# EAGLE library part 10067847-001RLF (library CONNECTORs)
12 (9 + 3) Position Card Connector Secure Digital - SD Surface Mount Gold
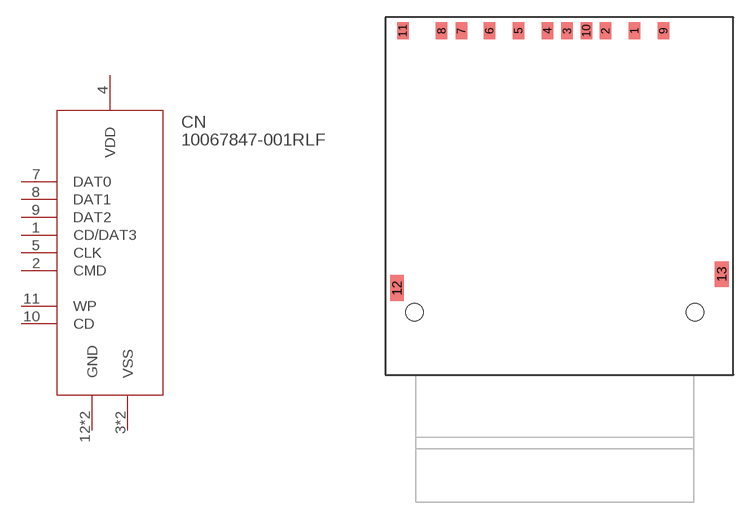
[diagram p75: symbol with the pads of 10067847-001RLF_AMP; footprint 10067847-001RLF_AMP]

Designator prefix CN

## 10067847-001RLF (DIGIKEY: 609-3956-1-ND; HEIGHT: 3; PRICE_PER: 1.74; VALUE: 10067847-001RLF)  [10067847-001RLF_AMP]
1  CD/DAT3  pas
2  CMD  pas
3  VSS  pas
4  VDD  pwr
5  CLK  pas
6  VSS  pas
7  DAT0
8  DAT1
9  DAT2
10  CD  pas
11  WP  pas
12  GND  pas
13  GND  pas

## Footprint 10067847-001RLF_AMP (pad centres in mm)
smd 0.991 x 1.499: 1 6.875,14.676; 2 4.375,14.676; 3 1.075,14.676; 4 -0.625,14.676; 5 -3.125,14.676; 6 -5.625,14.676; 7 -8.05,14.676; 8 -9.75,14.676; 9 9.375,14.676; 10 2.725,14.676; 11 -13.1,14.676
smd 1.194 x 2.21: 12 -13.6,-7.524; 13 14.4,-6.324
hole 1.5 at 12.1,-9.627
hole 1.5 at -12.1,-9.627